# Altium integrated library LSS-110-01-F-DV-A.IntLib: 1 symbol
Pins are listed as number, name and electrical type; pins without a type are passive.

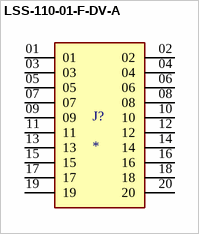
[diagram p0: symbol LSS-110-01-F-DV-A]

## LSS-110-01-F-DV-A
designator J?
MP: LSS-110-01-F-DV-A; MF: Samtec; Package: None; Value: *; Availability: Unavailable; Price: None
footprint SAMTEC_LSS-110-01-F-DV-A
pins: 01, 02, 03, 04, 05, 06, 07, 08, 09, 10, 11, 12, 13, 14, 15, 16, 17, 18, 19, 20